# Altium footprint library VQFN-16(2.5X3.5).PcbLib: 1 footprints
Each footprint in its own frame and in the unit in brackets; x right, y up, seen from the top. Pads: shape width x height; smd on the part's side, far side on the other; paste and mask are expansions set on the pad; w line width, h text height; cw(c..) or ccw(c..) is an arc to the next point about the centre after c.
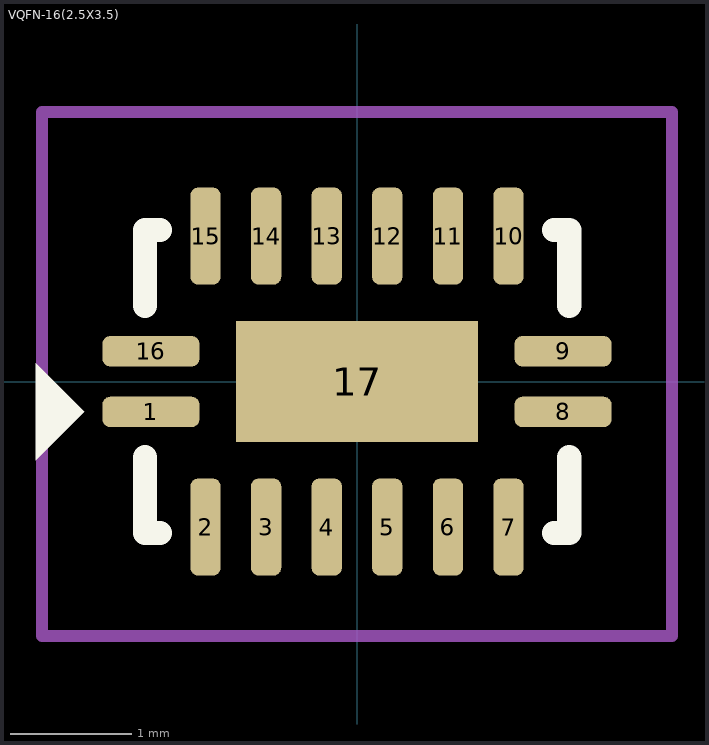
[diagram p0: the footprint, top view; thin cyan lines are the x and y axes]

## VQFN-16(2.5X3.5) [mm]
pads (17):
  rrect50% 0.8x0.25 smd: 1(-1.7,-0.25) 8(1.7,-0.25) 9(1.7,0.25) 16(-1.7,0.25)
  rrect50% 0.25x0.8 smd: 2(-1.25,-1.2) 3(-0.75,-1.2) 4(-0.25,-1.2) 5(0.25,-1.2) 6(0.75,-1.2) 7(1.25,-1.2) 10(1.25,1.2) 11(0.75,1.2) 12(0.25,1.2) 13(-0.25,1.2) 14(-0.75,1.2) 15(-1.25,1.2)
  rect 2x1 smd paste-2: 17(0,0)
Top Overlay:
  region: -2.65,-0.65 -2.65,0.15 -2.25,-0.25
  lines w0.2: -1.75,-0.625 -1.75,-1.25 -1.625,-1.25 ; -1.75,0.625 -1.75,1.25 -1.625,1.25 ; 1.625,-1.25 1.75,-1.25 1.75,-0.625 ; 1.625,1.25 1.75,1.25 1.75,0.625
Top Paste:
  region: 0.55,-0.2 0.15,-0.2 0.15,0.2 0.55,0.2
  region: -0.15,-0.2 -0.55,-0.2 -0.55,0.2 -0.15,0.2
Top Courtyard:
  lines w0.1: -2.6,-2.1 2.6,-2.1 2.6,2.225 -2.6,2.225 -2.6,-2.1
3D body "step_temp.STEP": height 1, standoff 0, extent -1.766,-1.242 1.734,1.258